# Altium footprint library C_1206_680nF.PcbLib: 1 footprints
Each footprint in its own frame and in the unit in brackets; x right, y up, seen from the top. Pads: shape width x height; smd on the part's side, far side on the other; paste and mask are expansions set on the pad; w line width, h text height; cw(c..) or ccw(c..) is an arc to the next point about the centre after c.
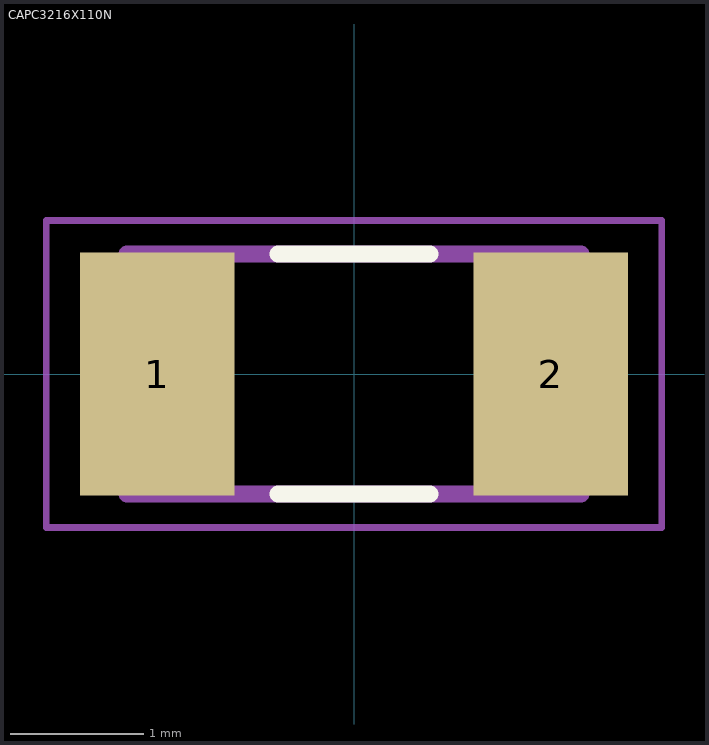
[diagram p0: the footprint, top view; thin cyan lines are the x and y axes]

## CAPC3216X110N [mm]
pads (2):
  rect 1.16x1.82 smd: 1(-1.475,0) 2(1.475,0)
Top Overlay:
  lines w0.127: -0.57,-0.9 0.57,-0.9 ; -0.57,0.9 0.57,0.9
Mechanical 13:
  lines w0.127: -1.7,-0.9 1.7,-0.9 1.7,0.9 -1.7,0.9 -1.7,-0.9
Mechanical 15:
  lines w0.05: -2.308,-1.15 2.308,-1.15 2.308,1.15 -2.308,1.15 -2.308,-1.15
3D body "C_1206_680nF.STEP": height 1.1, standoff 0, extent -1.6,-0.8 1.6,0.8